# EAGLE library part MAX14866_ANALOG_SWITCH_16CH (library PiB)
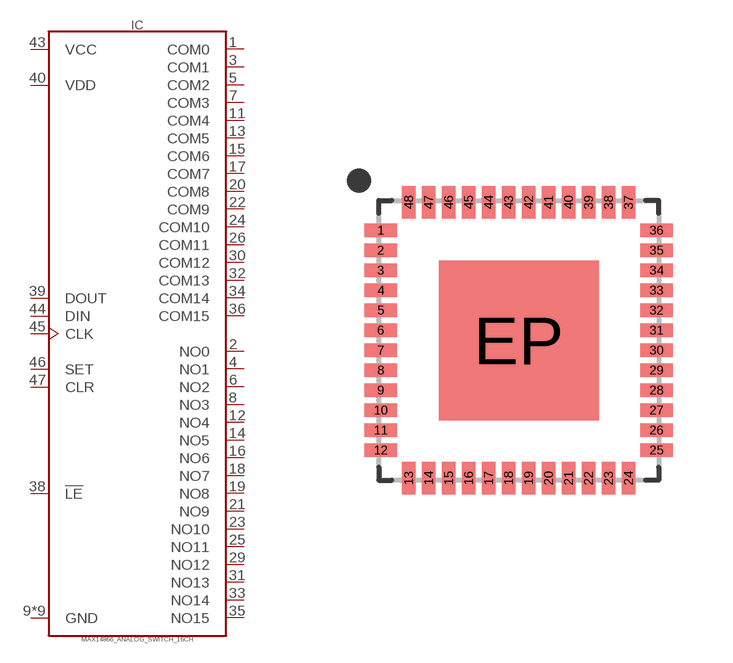
[diagram p15: symbol with the pads of QFN50P700X700X100-49T500; footprint QFN50P700X700X100-49T500]

Designator prefix IC

## MAX14866_ANALOG_SWITCH_16CH_MAX14866_16CH_HV_SPST_ANALOG_SWITCH (DATASHEET: https://datasheets.maximintegrated.com/en/ds/MAX14866.pdf; DIST: Digikey; DISTLINK: https://www.digikey.com/products/en?keywords=MAX14866UTM%2B-ND; DISTPN: MAX14866UTM+-ND; MFR: Maxim Integrated; MPN: MAX14866UTM+; VALUE: MAX14866)  [QFN50P700X700X100-49T500]
1  COM0
2  NO0
3  COM1
4  NO1
5  COM2
6  NO2
7  COM3
8  NO3
9  GND
10  GND
11  COM4
12  NO4
13  COM5
14  NO5
15  COM6
16  NO6
17  COM7
18  NO7
19  NO8
20  COM8
21  NO9
22  COM9
23  NO10
24  COM10
25  NO11
26  COM11
27  GND
28  GND
29  NO12
30  COM12
31  NO13
32  COM13
33  NO14
34  COM14
35  NO15
36  COM15
37  GND
38  !LE
39  DOUT
40  VDD
41  GND
42  GND
43  VCC
44  DIN  in
45  CLK
46  SET
47  CLR
48  GND
EP  GND

## Footprint QFN50P700X700X100-49T500 (pad centres in mm)
48-QFN, 0.50 mm pitch, 7.00 X 7.00 X 1.00 mm body, 5.00 X 5.00 mm thermal pad 48-pin QFN package with 0.50 mm pitch with body size 7.00 X 7.00 X 1.00 mm and thermal pad size 5.00 X 5.00 mm
smd 0.812 x 0.332: 1 -3.45,2.75; 2 -3.45,2.25; 3 -3.45,1.75; 4 -3.45,1.25; 5 -3.45,0.75; 6 -3.45,0.25; 7 -3.45,-0.25; 8 -3.45,-0.75; 9 -3.45,-1.25; 10 -3.45,-1.75; 11 -3.45,-2.25; 12 -3.45,-2.75; 25 3.45,-2.75; 26 3.45,-2.25; 27 3.45,-1.75; 28 3.45,-1.25; 29 3.45,-0.75; 30 3.45,-0.25; 31 3.45,0.25; 32 3.45,0.75; 33 3.45,1.25; 34 3.45,1.75; 35 3.45,2.25; 36 3.45,2.75
smd 0.332 x 0.812: 13 -2.75,-3.45; 14 -2.25,-3.45; 15 -1.75,-3.45; 16 -1.25,-3.45; 17 -0.75,-3.45; 18 -0.25,-3.45; 19 0.25,-3.45; 20 0.75,-3.45; 21 1.25,-3.45; 22 1.75,-3.45; 23 2.25,-3.45; 24 2.75,-3.45; 37 2.75,3.45; 38 2.25,3.45; 39 1.75,3.45; 40 1.25,3.45; 41 0.75,3.45; 42 0.25,3.45; 43 -0.25,3.45; 44 -0.75,3.45; 45 -1.25,3.45; 46 -1.75,3.45; 47 -2.25,3.45; 48 -2.75,3.45
smd 4 x 4: EP 0,0